# Altium schematic symbol library GK108-P-18GS-3-10M.Schlib: 1 symbol
Pins are listed as number, name and electrical type; pins without a type are passive.

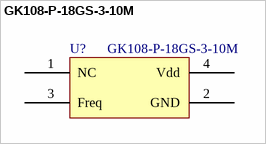
[diagram p0: symbol GK108-P-18GS-3-10M]

## GK108-P-18GS-3-10M
designator U?
Назначение: Кварцевый генератор; Наименование: ОСМ ГК108-П-18ГС-3-10М
footprint ГК-108-П
pins: 1 NC, 2 GND, 3 Freq, 4 Vdd